# EAGLE library part PIC16F1507 (library GadgetFactory_v1)
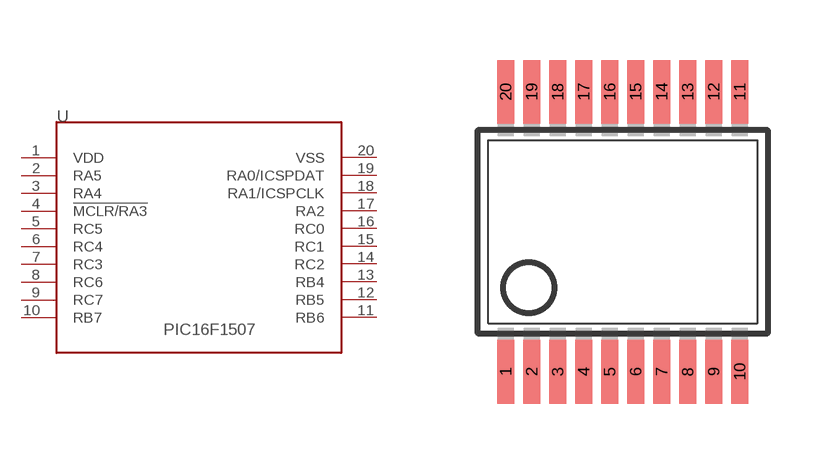
[diagram p48: symbol with the pads of SSOP20; footprint SSOP20]

Designator prefix U

## PIC16F1507  [SSOP20]
1  VDD  pwr
2  RA5
3  RA4
4  !MCLR/RA3  in
5  RC5
6  RC4
7  RC3
8  RC6
9  RC7
10  RB7
11  RB6
12  RB5
13  RB4
14  RC2
15  RC1
16  RC0
17  RA2
18  RA1/ICSPCLK
19  RA0/ICSPDAT
20  VSS  pas

## Footprint SSOP20 (pad centres in mm)
Small Shrink Outline Package
smd 0.42 x 1.6: 1 -2.925,-3.502; 2 -2.275,-3.502; 3 -1.625,-3.502; 4 -0.975,-3.502; 5 -0.325,-3.502; 6 0.325,-3.502; 7 0.975,-3.502; 8 1.625,-3.502; 9 2.275,-3.502; 10 2.925,-3.502; 11 2.925,3.502; 12 2.275,3.502; 13 1.625,3.502; 14 0.975,3.502; 15 0.325,3.502; 16 -0.325,3.502; 17 -0.975,3.502; 18 -1.625,3.502; 19 -2.275,3.502; 20 -2.925,3.502